# EAGLE library part 74AHCT125 (library Bits_library_eagle)
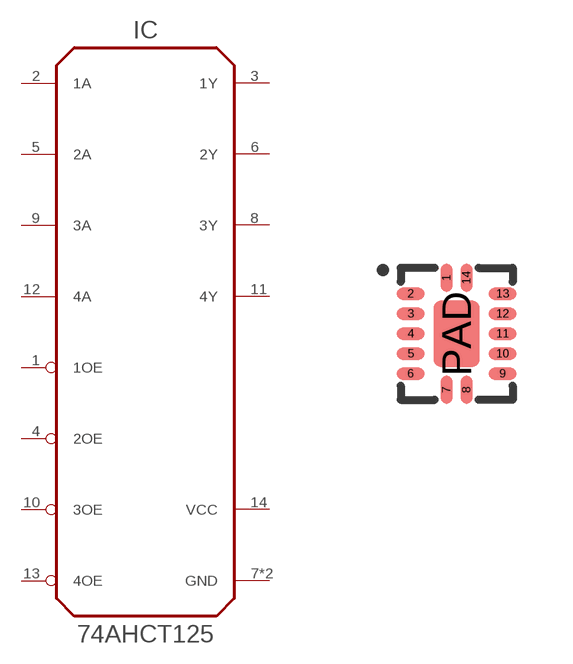
[diagram p93: symbol with the pads of DHVQFN14_PAD; footprint DHVQFN14_PAD]

Designator prefix IC

## 74AHCT125B  [DHVQFN14_PAD]
1  1OE
2  1A
3  1Y
4  2OE
5  2A
6  2Y
7  GND  pwr
8  3Y
9  3A
10  3OE
11  4Y
12  4A
13  4OE
14  VCC  pwr
PAD  GND  pwr

## Footprint DHVQFN14_PAD (pad centres in mm)
smd 0.3 x 0.7: 1 -0.25,1.4; 7 -0.25,-1.4; 8 0.25,-1.4; 14 0.25,1.4
smd 0.7 x 0.3: 2 -1.15,1; 3 -1.15,0.5; 4 -1.15,0; 5 -1.15,-0.5; 6 -1.15,-1; 9 1.15,-1; 10 1.15,-0.5; 11 1.15,0; 12 1.15,0.5; 13 1.15,1
smd 1.15 x 1.65: PAD 0,0